# Altium footprint library 0605.PcbLib: 1 footprints
Each footprint in its own frame and in the unit in brackets; x right, y up, seen from the top. Pads: shape width x height; smd on the part's side, far side on the other; paste and mask are expansions set on the pad; w line width, h text height; cw(c..) or ccw(c..) is an arc to the next point about the centre after c.
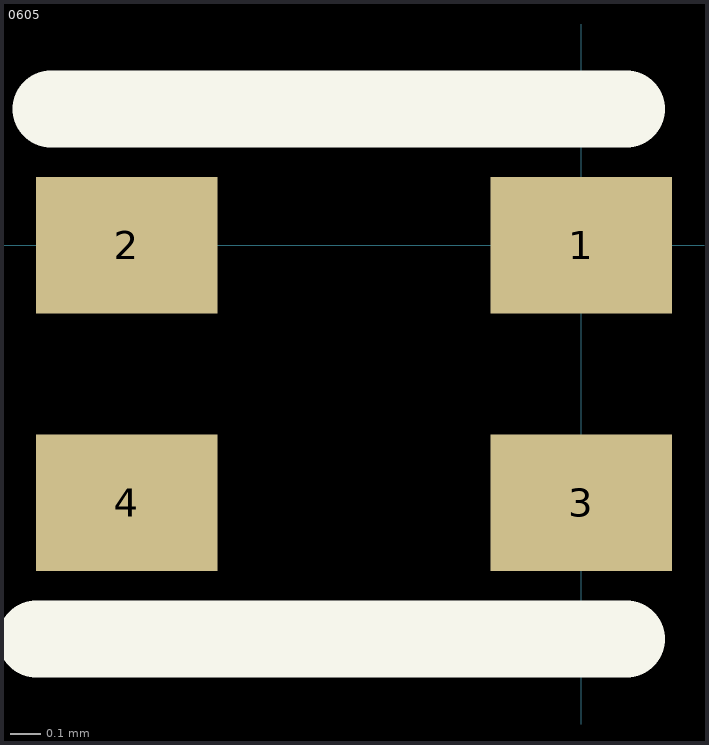
[diagram p0: the footprint, top view; thin cyan lines are the x and y axes]

## 0605 [mm]
pads (4):
  rect 0.6x0.45 smd: 1(0,0) 2(-1.5,0) 3(0,-0.85) 4(-1.5,-0.85)
TopOverlay:
  lines w0.254: -1.8,-1.3 0.15,-1.3 ; -1.75,0.45 0.15,0.45
  text "." at 0.534,0.327 h0.89
3D body: height 0.56, standoff 0.18, extent -1.245,-1.168 -0.279,0.305
3D body: height 0.18, standoff 0, extent -1.524,-1.168 0,0.305